# Altium schematic symbol library SN74LVC1G125DBVT.SchLib: 1 symbol
Pins are listed as number, name and electrical type; pins without a type are passive.

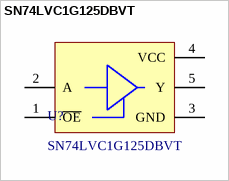
[diagram p0: symbol SN74LVC1G125DBVT]

## SN74LVC1G125DBVT
designator U?
IC BUF NON-INVERT 5.5V SOT23-5
footprint SN74LVC1G125DBVT
pins: 1 ~{OE}, 2 A, 3 GND, 4 VCC, 5 Y